# Altium footprint library Supernova Diodes.PcbLib: 50 footprints (part 2 of 4)
Each footprint in its own frame and in the unit in brackets; x right, y up, seen from the top. Pads: shape width x height; smd on the part's side, far side on the other; paste and mask are expansions set on the pad; w line width, h text height; cw(c..) or ccw(c..) is an arc to the next point about the centre after c.
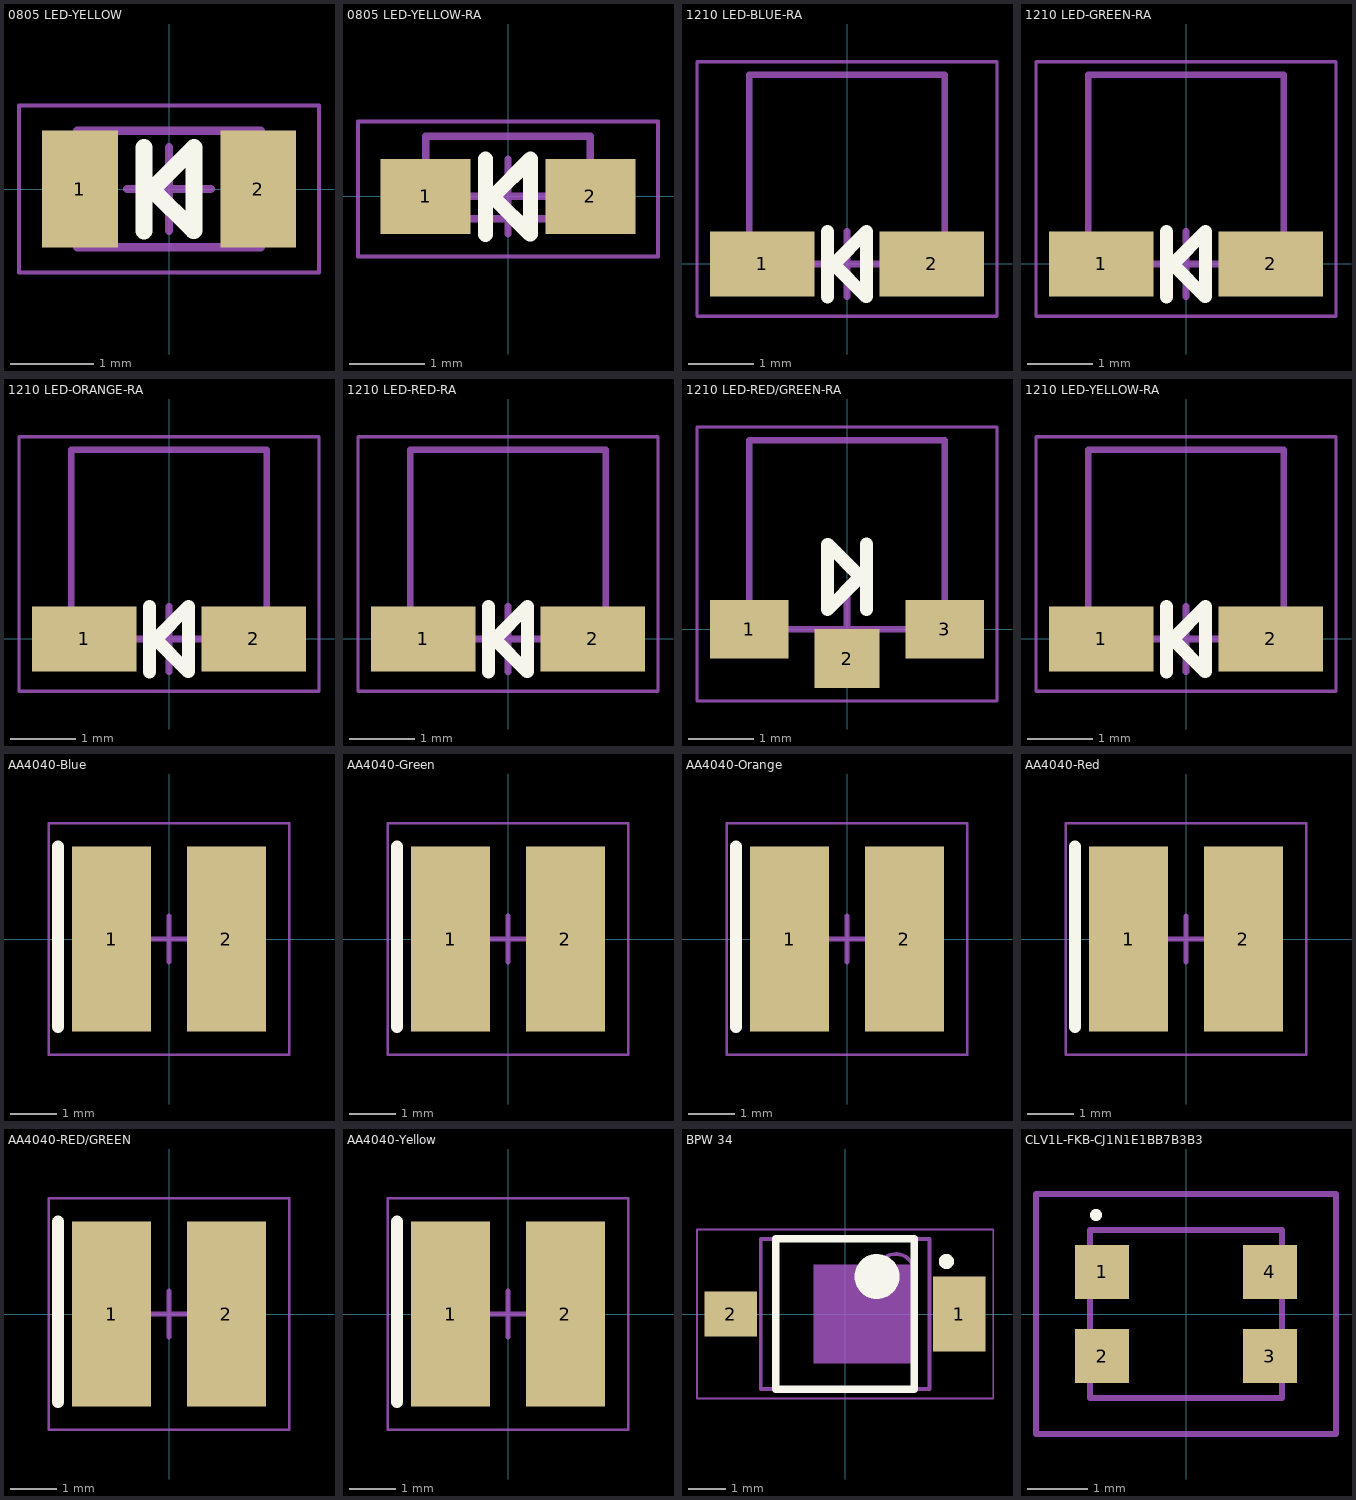
[diagram p1: the footprints below, top view; thin cyan lines are the x and y axes]

## 0805 LED-YELLOW [mm] "Chip LED, 2-Leads, Body 2.05x1.25mm, IPC Medium Density"
height 0.8
pads (2):
  rect 0.91x1.41 smd: 1(-1.07,0) 2(1.07,0)
Top Overlay:
  lines w0.2: -0.3,-0.508 -0.3,0.5 ; 0.292,-0.5 -0.204,-0.004 0.3,0.5 0.3,-0.5
Top 3D Body (Mech13):
  lines w0.1: -1.1,-0.7 -1.1,0.7 1.1,0.7 1.1,-0.7 -1.1,-0.7
Top Courtyard (Mech15):
  lines w0.05: -1.8,-1 -1.8,1 1.8,1 1.8,-1 -1.8,-1
  lines w0.1: -0.5,0 0.5,0 ; 0,-0.5 0,0.5
3D body: height 0.3, standoff 0, extent -0.75,-0.7 0.75,0.7
3D body: height 0.8, standoff 0.3, extent -0.75,-0.7 0.75,0.7
3D body: height 0.3, standoff 0, extent -1.1,-0.7 -0.75,0.7
3D body: height 0.3, standoff 0, extent 0.75,-0.7 1.1,0.7
3D body: height 0.8, standoff 0, extent -0.396,-0.398 0.4,0.398

## 0805 LED-YELLOW-RA [mm] "Chip LED, 2-Leads, Body 2.05x1.25mm, IPC Medium Density"
height 0.8
pads (2):
  rect 1.2x1 smd: 1(-1.1,0) 2(1.1,0)
Top Overlay:
  lines w0.2: -0.3,-0.508 -0.3,0.5 ; 0.292,-0.5 -0.204,-0.004 0.3,0.5 0.3,-0.5
Top 3D Body (Mech13):
  lines w0.1: -1.1,-0.3 1.1,-0.3 1.1,0.8 -1.1,0.8 -1.1,-0.3
Top Courtyard (Mech15):
  lines w0.05: -2,-0.8 2,-0.8 2,1 -2,1 -2,-0.8
  lines w0.1: -0.5,0 0.5,0 ; 0,-0.5 0,0.5
3D body: height 0.6, standoff 0, extent 0.75,-0.25 1.1,0.25
3D body: height 0.6, standoff 0, extent -1.1,-0.25 -0.75,0.25
3D body: height 0.6, standoff 0, extent -0.75,-0.25 0.75,0.25
3D body: height 0.55, standoff 0.05, extent -0.25,0.004 0.25,0.496
3D body: height 0.6, standoff 0, extent -0.75,0.25 0.75,0.75

## 1210 LED-BLUE-RA [mm] "Chip LED, 2-Leads, Body 2.05x1.25mm, IPC Medium Density"
height 0.8
pads (2):
  rect 1.6x1 smd: 1(-1.3,0) 2(1.3,0)
Top Overlay:
  lines w0.2: -0.3,-0.508 -0.3,0.5 ; 0.292,-0.5 -0.204,-0.004 0.3,0.5 0.3,-0.5
Top 3D Body (Mech13):
  lines w0.1: -1.5,0 1.5,0 1.5,2.9 -1.5,2.9 -1.5,0
Top Courtyard (Mech15):
  lines w0.05: -2.3,-0.8 2.3,-0.8 2.3,3.1 -2.3,3.1 -2.3,-0.8
  lines w0.1: -0.5,0 0.5,0 ; 0,-0.5 0,0.5
3D body: height 1.5, standoff 0.5, extent -0.491,0.152 0.5,1.148
3D body "APDA3020_base.step": height 2, standoff 0, extent -1.5,0.049 1.5,0.551
3D body "APDA3020_top.step": height 2, standoff 0, extent -1.1,0.55 1.1,2.841

## 1210 LED-GREEN-RA [mm] "Chip LED, 2-Leads, Body 2.05x1.25mm, IPC Medium Density"
height 0.8
pads (2):
  rect 1.6x1 smd: 1(-1.3,0) 2(1.3,0)
Top Overlay:
  lines w0.2: -0.3,-0.508 -0.3,0.5 ; 0.292,-0.5 -0.204,-0.004 0.3,0.5 0.3,-0.5
Top 3D Body (Mech13):
  lines w0.1: -1.5,0 1.5,0 1.5,2.9 -1.5,2.9 -1.5,0
Top Courtyard (Mech15):
  lines w0.05: -2.3,-0.8 2.3,-0.8 2.3,3.1 -2.3,3.1 -2.3,-0.8
  lines w0.1: -0.5,0 0.5,0 ; 0,-0.5 0,0.5
3D body: height 1.5, standoff 0.5, extent -0.491,0.152 0.5,1.148
3D body "APDA3020_base.step": height 2, standoff 0, extent -1.5,0.049 1.5,0.551
3D body "APDA3020_top.step": height 2, standoff 0, extent -1.1,0.55 1.1,2.841

## 1210 LED-ORANGE-RA [mm] "Chip LED, 2-Leads, Body 2.05x1.25mm, IPC Medium Density"
height 0.8
pads (2):
  rect 1.6x1 smd: 1(-1.3,0) 2(1.3,0)
Top Overlay:
  lines w0.2: -0.3,-0.508 -0.3,0.5 ; 0.292,-0.5 -0.204,-0.004 0.3,0.5 0.3,-0.5
Top 3D Body (Mech13):
  lines w0.1: -1.5,0 -1.5,2.9 1.5,2.9 1.5,0 -1.5,0
Top Courtyard (Mech15):
  lines w0.05: -2.3,-0.8 -2.3,3.1 2.3,3.1 2.3,-0.8 -2.3,-0.8
  lines w0.1: -0.5,0 0.5,0 ; 0,-0.5 0,0.5
3D body "APDA3020_top.step": height 2, standoff 0, extent -1.1,0.55 1.1,2.841
3D body "APDA3020_base.step": height 2, standoff 0, extent -1.5,0.049 1.5,0.551
3D body: height 1.5, standoff 0.5, extent -0.491,0.152 0.5,1.148

## 1210 LED-RED-RA [mm] "Chip LED, 2-Leads, Body 2.05x1.25mm, IPC Medium Density"
height 0.8
pads (2):
  rect 1.6x1 smd: 1(-1.3,0) 2(1.3,0)
Top Overlay:
  lines w0.2: -0.3,-0.508 -0.3,0.5 ; 0.292,-0.5 -0.204,-0.004 0.3,0.5 0.3,-0.5
Top 3D Body (Mech13):
  lines w0.1: -1.5,0 -1.5,2.9 1.5,2.9 1.5,0 -1.5,0
Top Courtyard (Mech15):
  lines w0.05: -2.3,-0.8 -2.3,3.1 2.3,3.1 2.3,-0.8 -2.3,-0.8
  lines w0.1: -0.5,0 0.5,0 ; 0,-0.5 0,0.5
3D body "APDA3020_top.step": height 2, standoff 0, extent -1.1,0.55 1.1,2.841
3D body "APDA3020_base.step": height 2, standoff 0, extent -1.5,0.049 1.5,0.551
3D body: height 1.5, standoff 0.5, extent -0.491,0.152 0.5,1.148

## 1210 LED-RED/GREEN-RA [mm] "Chip LED, 2-Leads, Body 2.05x1.25mm, IPC Medium Density"
height 0.8
pads (3):
  rect 1.2x0.9 smd: 1(-1.5,0) 3(1.5,0)
  rect 1x0.9 smd: 2(0,-0.45)
Top Overlay:
  lines w0.2: -0.3,1.3 -0.3,0.3 0.204,0.804 -0.292,1.3 ; 0.3,0.3 0.3,1.308
Top 3D Body (Mech13):
  lines w0.1: -1.5,0 1.5,0 1.5,2.9 -1.5,2.9 -1.5,0
Top Courtyard (Mech15):
  lines w0.05: -2.3,-1.1 2.3,-1.1 2.3,3.1 -2.3,3.1 -2.3,-1.1
  lines w0.1: -0.5,0 0.5,0 ; 0,-0.5 0,0.5
3D body: height 1, standoff 0.2, extent -0.399,0.253 0.4,1.047
3D body "APDA3020_base.step": height 2, standoff 0, extent -1.5,0.049 1.5,0.551
3D body "APDA3020_top.step": height 2, standoff 0, extent -1.1,0.55 1.1,2.841
3D body: height 1.8, standoff 1, extent -0.399,0.253 0.4,1.047

## 1210 LED-YELLOW-RA [mm] "Chip LED, 2-Leads, Body 2.05x1.25mm, IPC Medium Density"
height 0.8
pads (2):
  rect 1.6x1 smd: 1(-1.3,0) 2(1.3,0)
Top Overlay:
  lines w0.2: -0.3,-0.508 -0.3,0.5 ; 0.292,-0.5 -0.204,-0.004 0.3,0.5 0.3,-0.5
Top 3D Body (Mech13):
  lines w0.1: -1.5,0 -1.5,2.9 1.5,2.9 1.5,0 -1.5,0
Top Courtyard (Mech15):
  lines w0.05: -2.3,-0.8 -2.3,3.1 2.3,3.1 2.3,-0.8 -2.3,-0.8
  lines w0.1: -0.5,0 0.5,0 ; 0,-0.5 0,0.5
3D body "APDA3020_top.step": height 2, standoff 0, extent -1.1,0.55 1.1,2.841
3D body "APDA3020_base.step": height 2, standoff 0, extent -1.5,0.049 1.5,0.551
3D body: height 1.5, standoff 0.5, extent -0.491,0.152 0.5,1.148

## AA4040-Blue [mm]
pads (2):
  rect 1.7x4 smd paste-0.15: 1(-1.24,0) 2(1.24,0)
Top Overlay:
  lines w0.254: -2.4,-1.9 -2.4,2
Top Courtyard (Mech15):
  lines w0.05: -2.6,-2.5 -2.6,2.5 2.6,2.5 2.6,-2.5 -2.6,-2.5
  lines w0.1: -0.5,0 0.5,0 ; 0,-0.5 0,0.5
3D body "AA4040.STEP": height 4.15, standoff 0, extent -2,-1.8 2,1.8
3D body: height 3.45, standoff 1.95, extent -0.75,-1.797 0.75,-0.303

## AA4040-Green [mm]
pads (2):
  rect 1.7x4 smd paste-0.15: 1(-1.24,0) 2(1.24,0)
Top Overlay:
  lines w0.254: -2.4,-1.9 -2.4,2
Top Courtyard (Mech15):
  lines w0.05: -2.6,-2.5 2.6,-2.5 2.6,2.5 -2.6,2.5 -2.6,-2.5
  lines w0.1: -0.5,0 0.5,0 ; 0,-0.5 0,0.5
3D body: height 3.45, standoff 1.95, extent -0.75,-1.797 0.75,-0.303
3D body "AA4040.STEP": height 4.15, standoff 0, extent -2,-1.8 2,1.8

## AA4040-Orange [mm]
pads (2):
  rect 1.7x4 smd paste-0.15: 1(-1.24,0) 2(1.24,0)
Top Overlay:
  lines w0.254: -2.4,-1.9 -2.4,2
Top Courtyard (Mech15):
  lines w0.05: -2.6,-2.5 -2.6,2.5 2.6,2.5 2.6,-2.5 -2.6,-2.5
  lines w0.1: -0.5,0 0.5,0 ; 0,-0.5 0,0.5
3D body "AA4040.STEP": height 4.15, standoff 0, extent -2,-1.8 2,1.8
3D body: height 3.45, standoff 1.95, extent -0.75,-1.797 0.75,-0.303

## AA4040-Red [mm]
pads (2):
  rect 1.7x4 smd paste-0.15: 1(-1.24,0) 2(1.24,0)
Top Overlay:
  lines w0.254: -2.4,-1.9 -2.4,2
Top Courtyard (Mech15):
  lines w0.05: -2.6,-2.5 2.6,-2.5 2.6,2.5 -2.6,2.5 -2.6,-2.5
  lines w0.1: -0.5,0 0.5,0 ; 0,-0.5 0,0.5
3D body: height 3.45, standoff 1.95, extent -0.75,-1.797 0.75,-0.303
3D body "AA4040.STEP": height 4.15, standoff 0, extent -2,-1.8 2,1.8

## AA4040-RED/GREEN [mm]
pads (2):
  rect 1.7x4 smd paste-0.15: 1(-1.24,0) 2(1.24,0)
Top Overlay:
  lines w0.254: -2.4,-1.9 -2.4,2
Top Courtyard (Mech15):
  lines w0.05: -2.6,-2.5 -2.6,2.5 2.6,2.5 2.6,-2.5 -2.6,-2.5
  lines w0.1: -0.5,0 0.5,0 ; 0,-0.5 0,0.5
3D body: height 2.75, standoff 1.95, extent -0.4,-1.798 0.399,-1.003
3D body: height 3.45, standoff 2.65, extent -0.4,-1.798 0.399,-1.003
3D body "AA4040.STEP": height 4.15, standoff 0, extent -2,-1.8 2,1.8

## AA4040-Yellow [mm]
pads (2):
  rect 1.7x4 smd paste-0.15: 1(-1.24,0) 2(1.24,0)
Top Overlay:
  lines w0.254: -2.4,-1.9 -2.4,2
Top Courtyard (Mech15):
  lines w0.05: -2.6,-2.5 -2.6,2.5 2.6,2.5 2.6,-2.5 -2.6,-2.5
  lines w0.1: -0.5,0 0.5,0 ; 0,-0.5 0,0.5
3D body "AA4040.STEP": height 4.15, standoff 0, extent -2,-1.8 2,1.8
3D body: height 3.45, standoff 1.95, extent -0.75,-1.797 0.75,-0.303

## BPW 34 [mm] "TSOP, 2-Leads, Body 3.85x4.40mm, Pitch 2.54mm, IPC Medium Density"
height 1.3
pads (2):
  rect 1.4x2 smd paste-0.05: 1(3.05,0)
  rect 1.4x1.2 smd paste-0.05: 2(-3.05,0)
Top Overlay:
  circle w0.203: c2.7,1.4 r0.102
  circle w0.6: c0.85,1 r0.3
  lines w0.2: -1.85,-2 -1.85,2 1.85,2 1.85,-2 -1.85,-2
Guides:
  rectangle: -0.85,-1.325 1.8,1.325
Top 3D Body (Mech13):
  circle w0.1: c1.35,1.1 r0.5
  lines w0.1: -2.25,-2 -2.25,2 2.25,2 2.25,-2 -2.25,-2
Top Courtyard (Mech15):
  lines w0.05: -3.95,-2.25 -3.95,2.25 3.95,2.25 3.95,-2.25 -3.95,-2.25
  lines w0.1: -0.5,0 0.5,0 ; 0,-0.5 0,0.5
3D body: height 1.3, standoff 0, extent -2.25,-2 2.25,2
3D body: height 0.3, standoff 0, extent -3.3,-0.375 0,0.375
3D body: height 0.3, standoff 0, extent -0.001,-0.7 3.299,0.7

## CLV1L-FKB-CJ1N1E1BB7B3B3 [mm]
pads (4):
  rect 0.9x0.9 smd: 1(-1.4,0.7) 2(-1.4,-0.7) 3(1.4,-0.7) 4(1.4,0.7)
Top Overlay:
  lines w0.1: -1.5,1.6 cw(c-1.5,1.65) -1.5,1.7 cw(c-1.5,1.65) -1.5,1.6
Top 3D Body (Mech13):
  lines w0.1: -1.6,-1.4 1.6,-1.4 1.6,1.4 -1.6,1.4 -1.6,-1.4
Top Courtyard (Mech15):
  lines w0.1: -2.5,-2 2.5,-2 2.5,2 -2.5,2 -2.5,-2
3D body "CLV1L-FKB-CJ1N1E1BB7B3B3.stp": height 1.9, standoff 0, extent -1.752,-1.405 1.748,1.395